# EAGLE library part LM5050-1 (library texas-instruments)
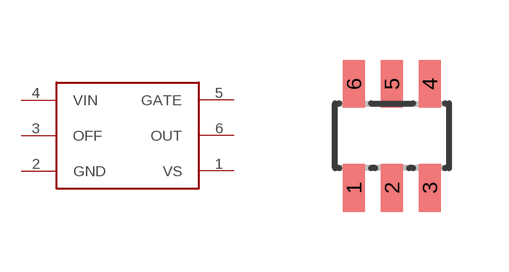
[diagram p7: symbol with the pads of SOT23-6L; footprint SOT23-6L]

Designator prefix -

## LM5050-1  [SOT23-6L]
1  VS
2  GND
3  OFF
4  VIN
5  GATE
6  OUT

## Footprint SOT23-6L (pad centres in mm)
Small Outline Transistor package type OT
smd 0.55 x 1.2: 1 -0.95,-1.3; 2 0,-1.3; 3 0.95,-1.3; 4 0.95,1.3; 5 0,1.3; 6 -0.95,1.3